# Altium footprint library JST BM04B-SRSS-TB.PCBLIB: 1 footprints
Each footprint in its own frame and in the unit in brackets; x right, y up, seen from the top. Pads: shape width x height; smd on the part's side, far side on the other; paste and mask are expansions set on the pad; w line width, h text height; cw(c..) or ccw(c..) is an arc to the next point about the centre after c.
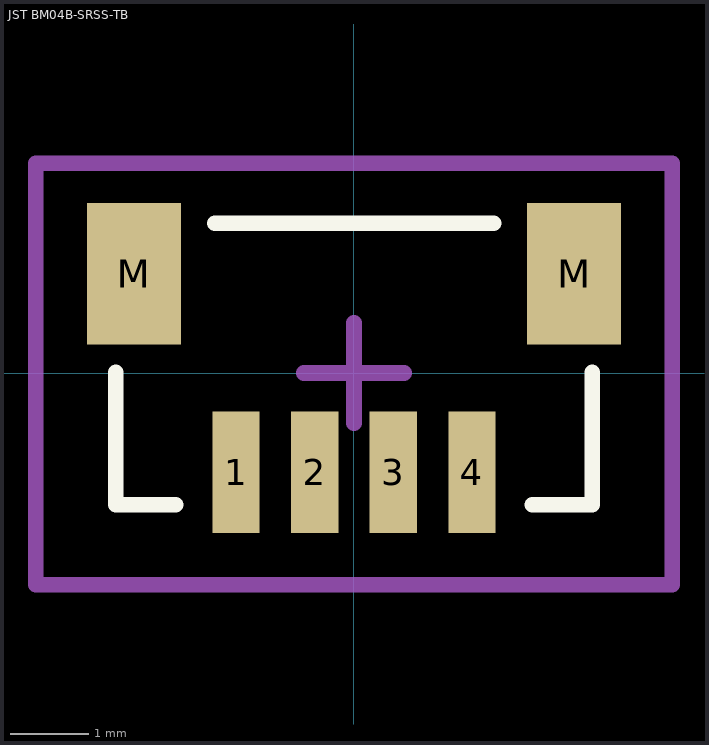
[diagram p0: the footprint, top view; thin cyan lines are the x and y axes]

## JST BM04B-SRSS-TB [mm] "1.0mm pitch/Disconnectable Crimp style connector"
height 2.95
pads (6):
  rect 0.6x1.55 smd: 1(-1.5,-1.262) 2(-0.5,-1.262) 3(0.5,-1.262) 4(1.5,-1.262)
  rect 1.2x1.8 smd: M(-2.8,1.262) M(2.8,1.262)
Top Overlay:
  lines w0.2: -3.032,0.008 -3.032,-1.676 -2.27,-1.676 ; -1.77,1.905 1.778,1.905 ; 2.27,-1.676 3.032,-1.676 3.032,0.008
Mechanical 15:
  lines w0.2: -0.635,0 0.635,0 ; 0,-0.635 0,0.635 ; -4.048,-2.692 -4.048,2.667 4.048,2.667 4.048,-2.692 -4.048,-2.692
3D body "JST BM04B-SRSS-TB.STEP": height 4.32, standoff 0, extent -3,-1.688 3,1.912